# Altium footprint library Footprint.PcbLib: 1 footprints
Each footprint in its own frame and in the unit in brackets; x right, y up, seen from the top. Pads: shape width x height; smd on the part's side, far side on the other; paste and mask are expansions set on the pad; w line width, h text height; cw(c..) or ccw(c..) is an arc to the next point about the centre after c.
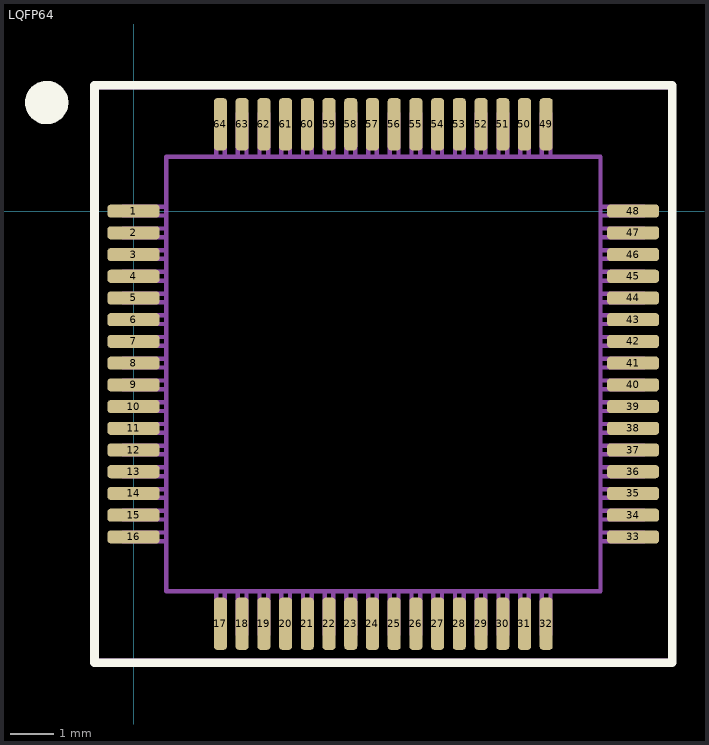
[diagram p0: the footprint, top view; thin cyan lines are the x and y axes]

## LQFP64 [mm] "LQFP, 64-Leads, Body 10.00x10.00 mm, IPC Medium Density"
height 1.55
pads (64):
  rrect50% 1.2x0.3 smd mask+0.03: 1(0,0) 2(0,-0.5) 3(0,-1) 4(0,-1.5) 5(0,-2) 6(0,-2.5) 7(0,-3) 8(0,-3.5) 9(0,-4) 10(0,-4.5) 11(0,-5) 12(0,-5.5) 13(0,-6) 14(0,-6.5) 15(0,-7) 16(0,-7.5) 33(11.5,-7.5) 34(11.5,-7) 35(11.5,-6.5) 36(11.5,-6) 37(11.5,-5.5) 38(11.5,-5) 39(11.5,-4.5) 40(11.5,-4) 41(11.5,-3.5) 42(11.5,-3) 43(11.5,-2.5) 44(11.5,-2) 45(11.5,-1.5) 46(11.5,-1) 47(11.5,-0.5) 48(11.5,0)
  rrect50% 0.3x1.2 smd mask+0.03: 17(2,-9.5) 18(2.5,-9.5) 19(3,-9.5) 20(3.5,-9.5) 21(4,-9.5) 22(4.5,-9.5) 23(5,-9.5) 24(5.5,-9.5) 25(6,-9.5) 26(6.5,-9.5) 27(7,-9.5) 28(7.5,-9.5) 29(8,-9.5) 30(8.5,-9.5) 31(9,-9.5) 32(9.5,-9.5) 49(9.5,2) 50(9,2) 51(8.5,2) 52(8,2) 53(7.5,2) 54(7,2) 55(6.5,2) 56(6,2) 57(5.5,2) 58(5,2) 59(4.5,2) 60(4,2) 61(3.5,2) 62(3,2) 63(2.5,2) 64(2,2)
Top Overlay:
  circle w0.5: c-2,2.5 r0.25
  lines w0.2: -0.9,-10.4 12.4,-10.4 12.4,2.9 -0.9,2.9 -0.9,-10.4
Mechanical 3:
  drawing of 260 lines, arcs and shapes, not listed
  text ".Designator" at -1,3.4 h1.52
Mechanical 10:
  lines w0.1: -0.85,-10.35 -0.85,2.85 12.35,2.85 12.35,-10.35 -0.85,-10.35
3D body "LQFP64.step": height 1.55, standoff 0, extent -0.25,-9.75 11.75,2.25